# Altium schematic symbol library schematic.SchLib: 9 symbols
Pins are listed as number, name and electrical type; pins without a type are passive.

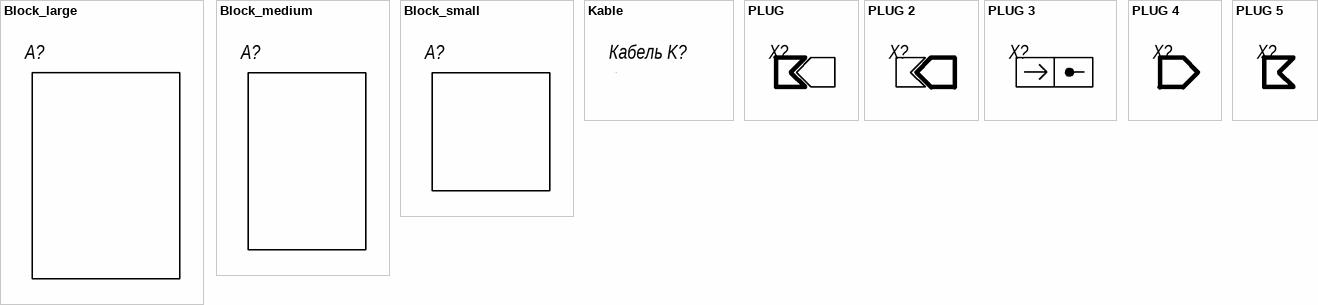
[diagram p0: symbols Block_large to PLUG 5]

## Block_large
designator A?
p: *
pins: 4 (power)

## Block_medium
designator A?
p: *
pins: 5 (power)

## Block_small
designator A?
p: *
pins: 6 (power)

## Kable
designator Кабель K?
type: type
pins: 7 (power)

## PLUG
designator X?
pins: 1 (power), 2 (power)

## PLUG 2
designator X?
pins: 1 (power), 2 (power)

## PLUG 3
designator X?
pins: 1 (power), 2 (power)

## PLUG 4
designator X?
pins: 2 (power)

## PLUG 5
designator X?
pins: 1 (power)